# EAGLE library part LTC6908-SOT (library linear-technology)
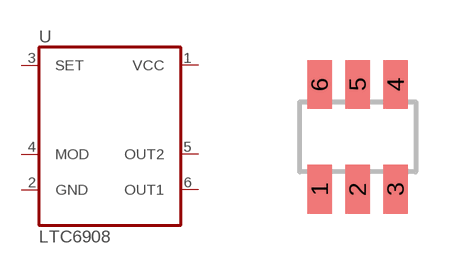
[diagram p55: symbol with the pads of TSOT23-6; footprint TSOT23-6]

Designator prefix -

## LTC6908-SOTS6  [TSOT23-6]
1  VCC  pwr
2  GND  pwr
3  SET
4  MOD
5  OUT2  out
6  OUT1  out

## Footprint TSOT23-6 (pad centres in mm)
smd 0.622 x 1.22: 1 -0.95,-1.31; 2 0,-1.31; 3 0.95,-1.31; 4 0.95,1.31; 5 0,1.31; 6 -0.95,1.31